# Altium footprint library Buttons.PcbLib: 8 footprints
Each footprint in its own frame and in the unit in brackets; x right, y up, seen from the top. Pads: shape width x height; smd on the part's side, far side on the other; paste and mask are expansions set on the pad; w line width, h text height; cw(c..) or ccw(c..) is an arc to the next point about the centre after c.
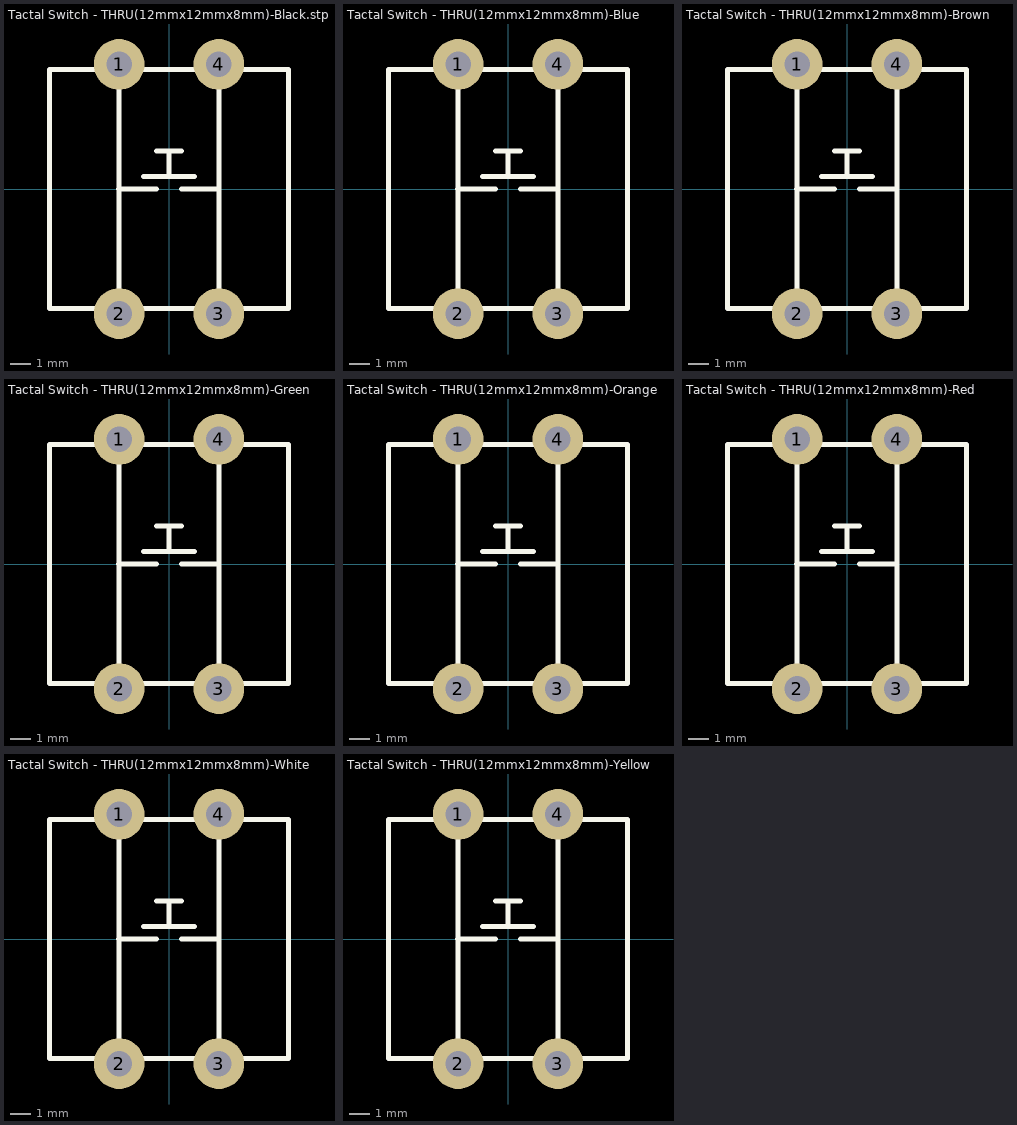
[diagram p0: the footprints below, top view; thin cyan lines are the x and y axes]

## Tactal Switch - THRU(12mmx12mmx8mm)-Black.stp [mm]
pads (4):
  round 2.54 hole 1.27: 1(-2.5,6.25) 2(-2.5,-6.25) 3(2.5,-6.25) 4(2.5,6.25)
Top Overlay:
  lines w0.254: -2.54,0 -0.635,0 ; -2.5,-5 -2.5,5 ; -1.27,0.635 1.27,0.635 ; -0.635,1.905 0.635,1.905 ; 0,0.635 0,1.905 ; 0.635,0 2.5,0 ; 2.5,-5 2.5,5 ; -6,-6 -6,6 6,6 6,-6 -6,-6
3D body "Tactal Switch - THRU(12mmx12mmx8mm)-Black.stp": height 7.87, standoff -3.05, extent -6.007,-6.708 6.007,6.708

## Tactal Switch - THRU(12mmx12mmx8mm)-Blue [mm]
pads (4):
  round 2.54 hole 1.27: 1(-2.5,6.25) 2(-2.5,-6.25) 3(2.5,-6.25) 4(2.5,6.25)
Top Overlay:
  lines w0.254: -2.54,0 -0.635,0 ; -2.5,-5 -2.5,5 ; -1.27,0.635 1.27,0.635 ; -0.635,1.905 0.635,1.905 ; 0,0.635 0,1.905 ; 0.635,0 2.5,0 ; 2.5,-5 2.5,5 ; -6,-6 6,-6 6,6 -6,6 -6,-6
3D body "Tactal Switch - THRU(12mmx12mmx8mm)-Blue.stp": height 7.87, standoff -3.05, extent -6.007,-6.708 6.007,6.708

## Tactal Switch - THRU(12mmx12mmx8mm)-Brown [mm]
pads (4):
  round 2.54 hole 1.27: 1(-2.5,6.25) 2(-2.5,-6.25) 3(2.5,-6.25) 4(2.5,6.25)
Top Overlay:
  lines w0.254: -2.54,0 -0.635,0 ; -2.5,-5 -2.5,5 ; -1.27,0.635 1.27,0.635 ; -0.635,1.905 0.635,1.905 ; 0,0.635 0,1.905 ; 0.635,0 2.5,0 ; 2.5,-5 2.5,5 ; -6,-6 6,-6 6,6 -6,6 -6,-6
3D body "Tactal Switch - THRU(12mmx12mmx8mm)-Brown.stp": height 7.87, standoff -3.05, extent -6.007,-6.708 6.007,6.708

## Tactal Switch - THRU(12mmx12mmx8mm)-Green [mm]
pads (4):
  round 2.54 hole 1.27: 1(-2.5,6.25) 2(-2.5,-6.25) 3(2.5,-6.25) 4(2.5,6.25)
Top Overlay:
  lines w0.254: -2.54,0 -0.635,0 ; -2.5,-5 -2.5,5 ; -1.27,0.635 1.27,0.635 ; -0.635,1.905 0.635,1.905 ; 0,0.635 0,1.905 ; 0.635,0 2.5,0 ; 2.5,-5 2.5,5 ; -6,-6 -6,6 6,6 6,-6 -6,-6
3D body "Tactal Switch - THRU(12mmx12mmx8mm)-Green.stp": height 7.87, standoff -3.05, extent -6.007,-6.708 6.007,6.708

## Tactal Switch - THRU(12mmx12mmx8mm)-Orange [mm]
pads (4):
  round 2.54 hole 1.27: 1(-2.5,6.25) 2(-2.5,-6.25) 3(2.5,-6.25) 4(2.5,6.25)
Top Overlay:
  lines w0.254: -2.54,0 -0.635,0 ; -2.5,-5 -2.5,5 ; -1.27,0.635 1.27,0.635 ; -0.635,1.905 0.635,1.905 ; 0,0.635 0,1.905 ; 0.635,0 2.5,0 ; 2.5,-5 2.5,5 ; -6,-6 6,-6 6,6 -6,6 -6,-6
3D body "Tactal Switch - THRU(12mmx12mmx8mm)-Orange.stp": height 7.87, standoff -3.05, extent -6.007,-6.708 6.007,6.708

## Tactal Switch - THRU(12mmx12mmx8mm)-Red [mm]
pads (4):
  round 2.54 hole 1.27: 1(-2.5,6.25) 2(-2.5,-6.25) 3(2.5,-6.25) 4(2.5,6.25)
Top Overlay:
  lines w0.254: -2.54,0 -0.635,0 ; -2.5,-5 -2.5,5 ; -1.27,0.635 1.27,0.635 ; -0.635,1.905 0.635,1.905 ; 0,0.635 0,1.905 ; 0.635,0 2.5,0 ; 2.5,-5 2.5,5 ; -6,-6 -6,6 6,6 6,-6 -6,-6
3D body "Tactal Switch - THRU(12mmx12mmx8mm)-Red.stp": height 7.87, standoff -3.05, extent -6.007,-6.708 6.007,6.708

## Tactal Switch - THRU(12mmx12mmx8mm)-White [mm]
pads (4):
  round 2.54 hole 1.27: 1(-2.5,6.25) 2(-2.5,-6.25) 3(2.5,-6.25) 4(2.5,6.25)
Top Overlay:
  lines w0.254: -2.54,0 -0.635,0 ; -2.5,-5 -2.5,5 ; -1.27,0.635 1.27,0.635 ; -0.635,1.905 0.635,1.905 ; 0,0.635 0,1.905 ; 0.635,0 2.5,0 ; 2.5,-5 2.5,5 ; -6,-6 -6,6 6,6 6,-6 -6,-6
3D body "Tactal Switch - THRU(12mmx12mmx8mm)-White.stp": height 7.87, standoff -3.05, extent -6.007,-6.708 6.007,6.708

## Tactal Switch - THRU(12mmx12mmx8mm)-Yellow [mm]
pads (4):
  round 2.54 hole 1.27: 1(-2.5,6.25) 2(-2.5,-6.25) 3(2.5,-6.25) 4(2.5,6.25)
Top Overlay:
  lines w0.254: -2.54,0 -0.635,0 ; -2.5,-5 -2.5,5 ; -1.27,0.635 1.27,0.635 ; -0.635,1.905 0.635,1.905 ; 0,0.635 0,1.905 ; 0.635,0 2.5,0 ; 2.5,-5 2.5,5 ; -6,-6 -6,6 6,6 6,-6 -6,-6
3D body "Tactal Switch - THRU(12mmx12mmx8mm)-Yellow.stp": height 7.87, standoff -3.05, extent -6.007,-6.708 6.007,6.708